# EAGLE library part LIGHTNING (library lio)
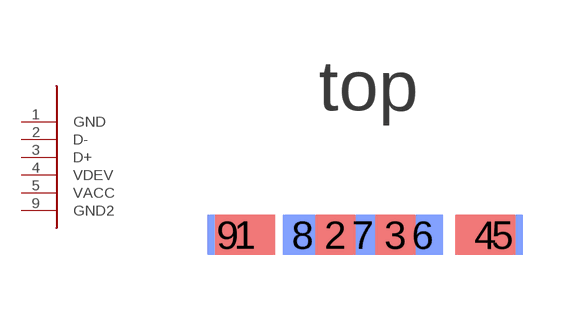
[diagram p3: symbol with the pads of LIGHTNING; footprint LIGHTNING]

Designator prefix -

## LIGHTNING  [LIGHTNING]
1  GND  pwr
2  D-
3  D+
4  VDEV  pwr
5  VACC  sup
9  GND2  pwr

## Footprint LIGHTNING (pad centres in mm)
smd 1.5 x 1: 1 0.85,0; 4 6.86,0
smd 1 x 1: 2 3.11,0; 3 4.61,0
smd 1 x 1 bottom: 5 7.3,0; 6 5.3,0; 7 3.8,0; 8 2.3,0; 9 0.41,0